# Altium footprint library Inductors.PcbLib: 8 footprints
Each footprint in its own frame and in the unit in brackets; x right, y up, seen from the top. Pads: shape width x height; smd on the part's side, far side on the other; paste and mask are expansions set on the pad; w line width, h text height; cw(c..) or ccw(c..) is an arc to the next point about the centre after c.
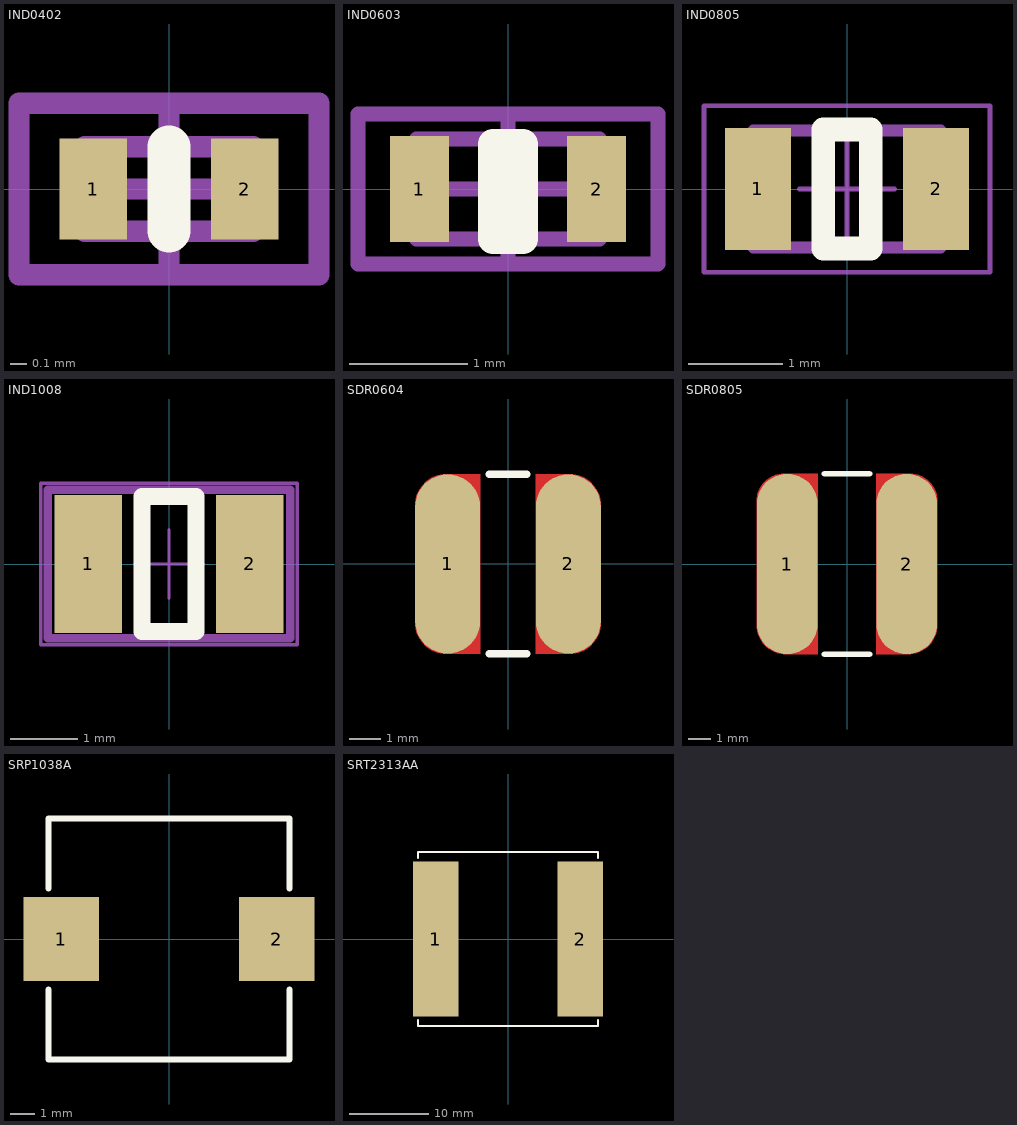
[diagram p0: the footprints below, top view; thin cyan lines are the x and y axes]

## IND0402 [mm] "Chip Inductor, 0402 package"
height 0.55
pads (2):
  rect 0.4x0.6 smd: 1(-0.45,0) 2(0.45,0)
Top Overlay:
  lines w0.254: 0,-0.25 0,0.25
Mechanical 2:
  lines w0.127: -0.508,0 0.508,0 ; 0,-0.508 0,0.508 ; -0.889,-0.508 -0.889,0.508 0.889,0.508 0.889,-0.508 -0.889,-0.508
Mechanical 3:
  lines w0.127: -0.5,-0.25 -0.5,0.25 0.5,0.25 0.5,-0.25 -0.5,-0.25
3D body "User Library-RESC1005X04N.STEP": height 0.35, standoff 0, extent -0.5,-0.25 0.5,0.25

## IND0603 [mm] "Chip Inductor, Body 1.55x0.85mm"
height 0.8
pads (2):
  rect 0.5x0.9 smd: 1(-0.75,0) 2(0.75,0)
Top Overlay:
  lines w0.254: -0.127,-0.425 0.127,-0.425 0.127,0.381 -0.127,0.381 -0.127,-0.425
Mechanical 2:
  lines w0.127: -0.635,0 0.635,0 ; 0,-0.635 0,0.635 ; -1.27,-0.635 1.27,-0.635 1.27,0.635 -1.27,0.635 -1.27,-0.635
Mechanical 3:
  lines w0.127: -0.775,-0.425 -0.775,0.425 0.775,0.425 0.775,-0.425 -0.775,-0.425
3D body "User Library-Chip Inductor.step": height 0.81, standoff 0.01, extent -0.85,-0.475 0.75,0.475

## IND0805 [mm] "Chip Inductor Body 2.0x1.25mm"
height 0.45
pads (2):
  rect 0.7x1.3 smd: 1(-0.95,0) 2(0.95,0)
Top Overlay:
  lines w0.254: -0.254,-0.635 -0.254,0.635 0.254,0.635 0.254,-0.635 -0.254,-0.635
Mechanical 2:
  lines w0.051: -0.508,0 0.508,0 ; 0,-0.508 0,0.508 ; -1.524,-0.889 1.524,-0.889 1.524,0.889 -1.524,0.889 -1.524,-0.889
Mechanical 3:
  lines w0.127: -1,-0.625 -1,0.625 1,0.625 1,-0.625 -1,-0.625
3D body "LQM21NN0_1-2_2u.stp": height 0.85, standoff 0, extent -1,-0.625 1,0.625

## IND1008 [mm] "Chip Inductor Body 2.5x2.0mm"
height 0.45
pads (2):
  rect 1x2.05 smd: 1(-1.2,0) 2(1.2,0)
Top Overlay:
  lines w0.254: -0.4,-1 -0.4,1 0.4,1 0.4,-1 -0.4,-1
Mechanical 2:
  lines w0.051: -0.508,0 0.508,0 ; 0,-0.508 0,0.508 ; -1.9,-1.2 1.9,-1.2 1.9,1.2 -1.9,1.2 -1.9,-1.2
Mechanical 3:
  lines w0.127: -1.8,-1.1 -1.8,1.1 1.8,1.1 1.8,-1.1 -1.8,-1.1
3D body "LQM21NN0_1-2_2u.stp": height 0.85, standoff 0, extent -1,-0.625 1,0.625

## SDR0604 [mm]
pads (2):
  rrect100% 2.1x5.8 smd: 1(-1.95,0) 2(1.95,0)
Top Layer:
  region: 2,2.9 0.9,2.9 0.9,-2.9 2,-2.9 2.098,-2.9 2.292,-2.862 2.474,-2.786 2.637,-2.677 2.777,-2.537 2.886,-2.374 2.962,-2.192 3,-1.998 3,-1.9 3,1.9 3,1.998 2.962,2.192 2.886,2.374 2.777,2.537 2.638,2.677 2.474,2.786 2.292,2.862 2.099,2.9
  region: -2,2.9 -0.9,2.9 -0.9,-2.9 -2,-2.9 -2.098,-2.9 -2.292,-2.862 -2.474,-2.786 -2.637,-2.677 -2.777,-2.537 -2.886,-2.374 -2.962,-2.192 -3,-1.999 -3,-1.9 -3,1.9 -3,1.999 -2.962,2.192 -2.886,2.374 -2.777,2.537 -2.637,2.677 -2.474,2.786 -2.292,2.862 -2.099,2.9
Top Overlay:
  lines w0.254: -0.6,-2.9 0.6,-2.9 ; -0.6,2.9 0.6,2.9
3D body "User Library-SDR0604.step": height 4.55, standoff 0, extent -2.754,-2.8 2.754,2.8

## SDR0805 [mm]
pads (2):
  rrect100% 2.7x8 smd: 1(-2.65,0) 2(2.65,0)
Top Layer:
  region: -2.8,4 -1.3,4 -1.3,-4 -2.7,-4 -2.828,-4 -3.079,-3.95 -3.316,-3.852 -3.529,-3.71 -3.71,-3.529 -3.852,-3.316 -3.95,-3.079 -4,-2.828 -4,-2.7 -4,2.8 -4,2.918 -3.954,3.15 -3.863,3.368 -3.732,3.565 -3.565,3.732 -3.368,3.863 -3.15,3.954 -2.918,4
  region: 2.8,4 1.3,4 1.3,-4 2.7,-4 2.828,-4 3.079,-3.95 3.316,-3.852 3.529,-3.71 3.71,-3.529 3.852,-3.316 3.95,-3.079 4,-2.828 4,-2.7 4,2.8 4,2.918 3.954,3.15 3.863,3.368 3.732,3.565 3.565,3.732 3.368,3.863 3.15,3.954 2.918,4
Top Overlay:
  lines w0.254: -1,-4 1,-4 ; -1,4 1,4
3D body "User Library-inductor SDR0805.step": height 5.3, standoff 0, extent -3.9,-3.9 3.9,3.9

## SRP1038A [mil]
pads (2):
  rect 123x137.8 smd: 1(-176,0) 2(176,0)
Top Overlay:
  lines w10: -196.85,-82.68 -196.85,-196.85 196.85,-196.85 196.85,-82.68 ; -196.85,82.68 -196.85,196.85 196.85,196.85 196.85,82.68
3D body "SRP 1038A series.STEP": height 147.64, standoff 0, extent -204.72,-196.85 204.72,196.85

## SRT2313AA [mm]
pads (2):
  rect 5.75x19.6 smd: 1(-9.125,0) 2(9.125,0)
Top Overlay:
  lines w0.254: -11.35,-10.2 -11.35,-11 11.35,-11 11.35,-10.2 ; -11.35,10.2 -11.35,11 11.35,11 11.35,10.2
3D body "SRP2313AA.stp": height -0.3, standoff -12.9, extent -11.75,-11 11.75,11